# Altium footprint library NTC Thermistors.PcbLib: 2 footprints
Each footprint in its own frame and in the unit in brackets; x right, y up, seen from the top. Pads: shape width x height; smd on the part's side, far side on the other; paste and mask are expansions set on the pad; w line width, h text height; cw(c..) or ccw(c..) is an arc to the next point about the centre after c.
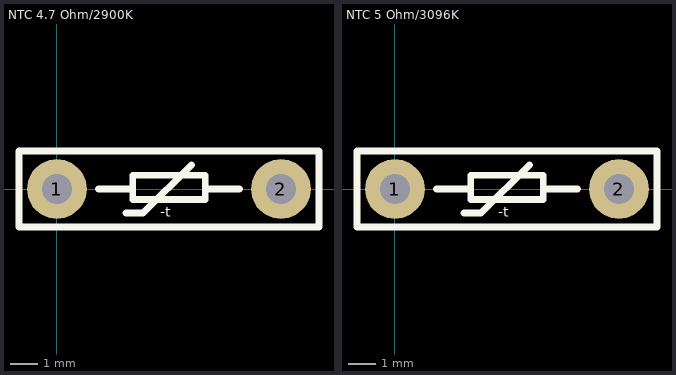
[diagram p0: the footprints below, top view; thin cyan lines are the x and y axes]

## NTC 4.7 Ohm/2900K [mm] "NTC Thermistor 4.7 Ohm/2900K"
pads (2):
  round 2.2 hole 1.1: 1(0,0) 2(8.25,0)
Top Overlay:
  lines w0.254: 1.524,0 2.794,0 ; 2.54,-0.889 3.175,-0.889 4.953,0.889 ; 5.461,0 6.731,0 ; -1.397,-1.397 9.652,-1.397 9.652,1.397 -1.397,1.397 -1.397,-1.397 ; 2.794,-0.381 2.794,0.508 3.429,0.508 5.461,0.508 5.461,-0.381 3.429,-0.381 2.794,-0.381
  text "-t" at 3.81,-1.016 h0.38
3D body "NTC Thermistor.step": height 27.16, standoff -1.27, extent -7.569,-5.174 15.821,5.208

## NTC 5 Ohm/3096K [mm] "NTC Thermistor 5 Ohm/3096K"
pads (2):
  round 2.2 hole 1.1: 1(0,0) 2(8.25,0)
Top Overlay:
  lines w0.254: 1.524,0 2.794,0 ; 2.54,-0.889 3.175,-0.889 4.953,0.889 ; 5.461,0 6.731,0 ; -1.397,-1.397 9.652,-1.397 9.652,1.397 -1.397,1.397 -1.397,-1.397 ; 2.794,-0.381 2.794,0.508 3.429,0.508 5.461,0.508 5.461,-0.381 3.429,-0.381 2.794,-0.381
  text "-t" at 3.81,-1.016 h0.38
3D body "NTC Thermistor.step": height 27.16, standoff -1.27, extent -7.569,-5.174 15.821,5.208